# Altium footprint library footprints.PcbLib: 160 footprints (part 7 of 10)
Each footprint in its own frame and in the unit in brackets; x right, y up, seen from the top. Pads: shape width x height; smd on the part's side, far side on the other; paste and mask are expansions set on the pad; w line width, h text height; cw(c..) or ccw(c..) is an arc to the next point about the centre after c.
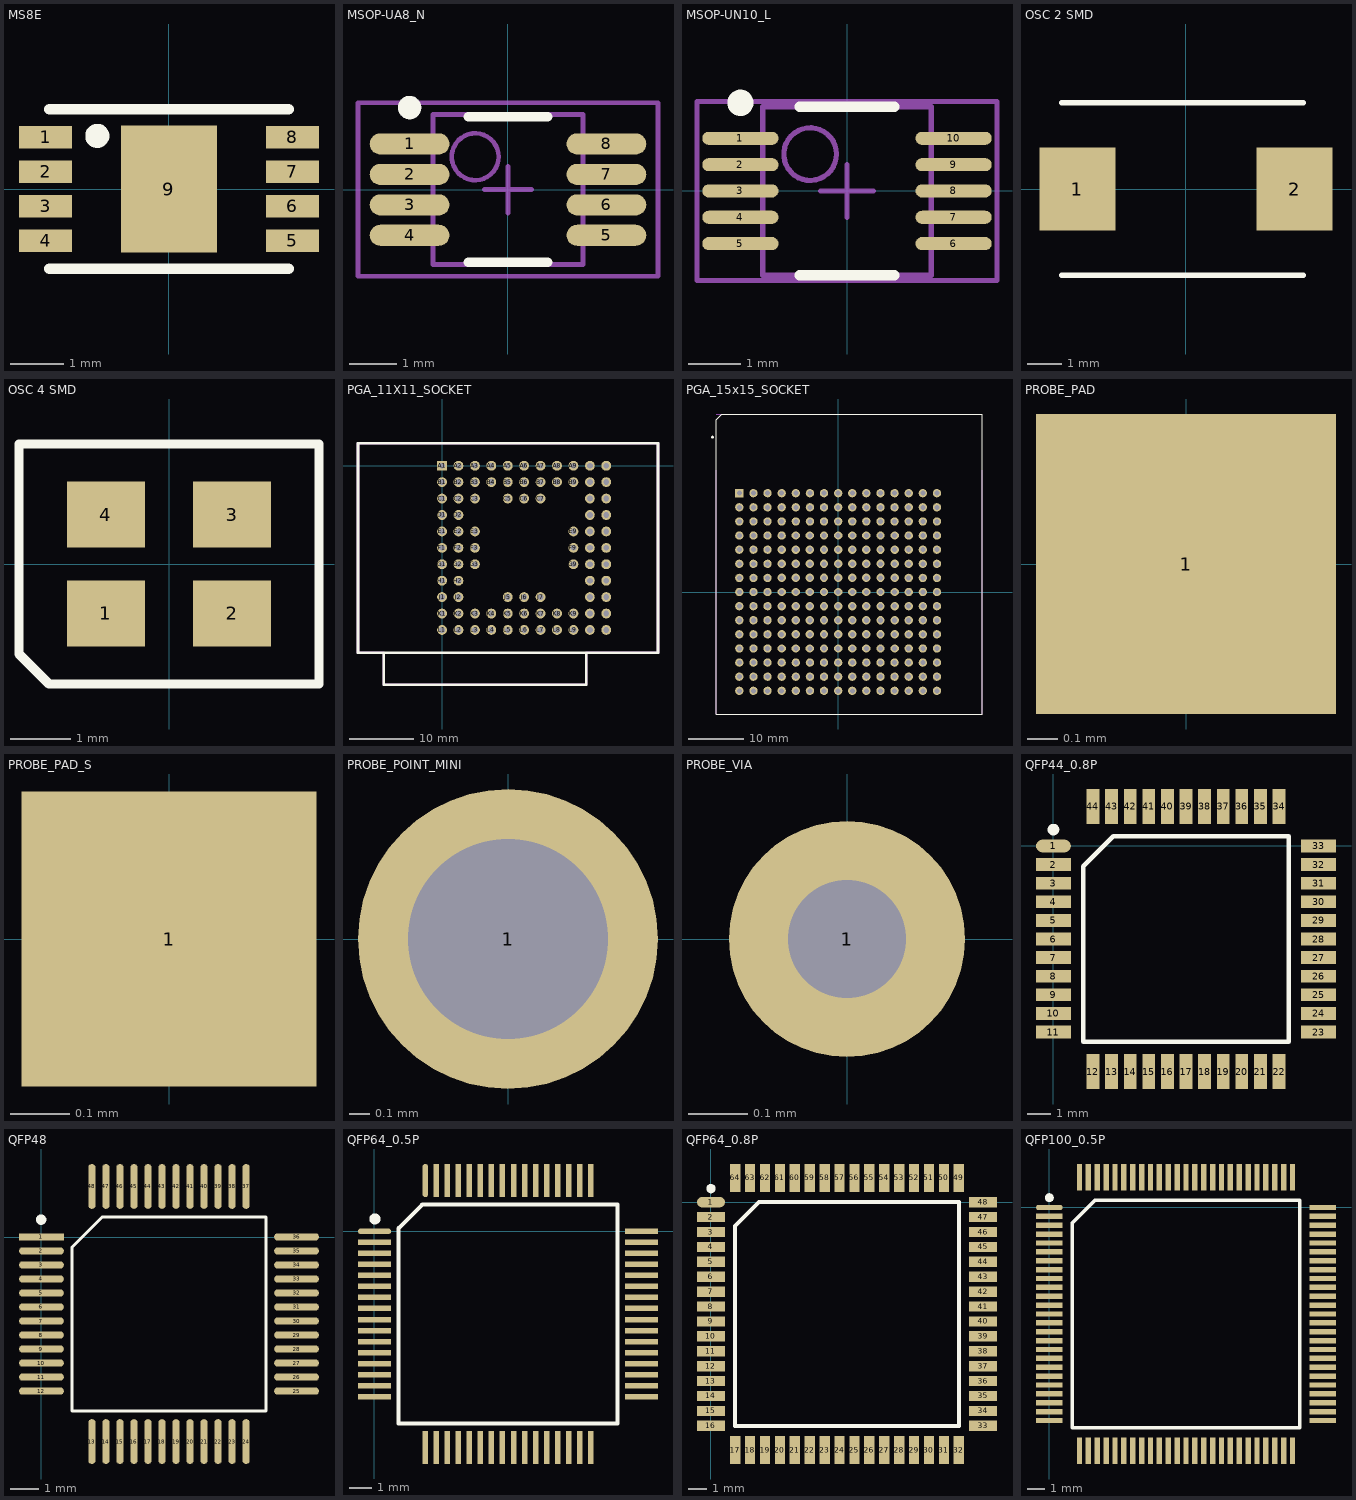
[diagram p6: the footprints below, top view; thin cyan lines are the x and y axes]

## MS8E [mm]
pads (9):
  rect 1x0.42 smd: 1(-2.325,0.975) 2(-2.325,0.325) 3(-2.325,-0.325) 4(-2.325,-0.975) 5(2.325,-0.975) 6(2.325,-0.325) 7(2.325,0.325) 8(2.325,0.975)
  rect 1.8x2.4 smd: 9(0,0)
Top Overlay:
  circle w0.254: c-1.35,1 r0.1
  lines w0.2: -2.25,-1.5 2.25,-1.5 ; -2.25,1.5 2.25,1.5

## MSOP-UA8_N [mm]
pads (8):
  oval 1.7x0.45 smd: 1(-2.1,0.975) 2(-2.1,0.325) 3(-2.1,-0.325) 4(-2.1,-0.975) 5(2.1,-0.975) 6(2.1,-0.325) 7(2.1,0.325) 8(2.1,0.975)
Top Overlay:
  circle w0.25: c-2.1,1.75 r0.125
  lines w0.2: -0.85,-1.55 0.85,-1.55 ; -0.85,1.55 0.85,1.55
Mechanical 13:
  circle w0.1: c-0.7,0.7 r0.5
  lines w0.1: -1.6,-1.6 -1.6,1.6 1.6,1.6 1.6,-1.6 -1.6,-1.6
Mechanical 15:
  lines w0.1: -0.5,0 0.5,0 ; 0,-0.5 0,0.5 ; -3.2,-1.85 -3.2,1.85 3.2,1.85 3.2,-1.85 -3.2,-1.85
3D body: height 1.1, standoff 0, extent -1.6,-1.6 1.6,1.6

## MSOP-UN10_L [mm]
pads (10):
  oval 1.45x0.25 smd: 1(-2.025,1) 2(-2.025,0.5) 3(-2.025,0) 4(-2.025,-0.5) 5(-2.025,-1) 6(2.025,-1) 7(2.025,-0.5) 8(2.025,0) 9(2.025,0.5) 10(2.025,1)
Top Overlay:
  circle w0.25: c-2.025,1.675 r0.125
  lines w0.2: -0.9,-1.6 0.9,-1.6 ; -0.9,1.6 0.9,1.6
Mechanical 13:
  circle w0.1: c-0.7,0.7 r0.5
  lines w0.1: -1.6,-1.6 1.6,-1.6 1.6,1.6 -1.6,1.6 -1.6,-1.6
Mechanical 15:
  lines w0.1: -0.5,0 0.5,0 ; 0,-0.5 0,0.5 ; -2.85,-1.7 2.85,-1.7 2.85,1.7 -2.85,1.7 -2.85,-1.7
3D body: height 1.1, standoff 0, extent -1.6,-1.6 1.6,1.6

## OSC 2 SMD [mm]
pads (2):
  rect 2.2x2.4 smd: 1(-3.15,0) 2(3.15,0)
Top Overlay:
  lines w0.152: -3.6,-2.5 3.4,-2.5 ; -3.6,2.5 3.4,2.5

## OSC 4 SMD [mm] "3.2 x 2.5 x 1.0 mm"
pads (4):
  rect 1.3x1.1 smd: 1(-1.05,-0.825) 2(1.05,-0.825) 3(1.05,0.825) 4(-1.05,0.825)
Top Overlay:
  lines w0.152: -2,-2 -2.5,-1.5 -2.5,0 -2.5,2 2.5,2 2.5,-2 -2,-2 ; -2,-2 -2,-2

## PGA_11X11_SOCKET [mil]
pads (85):
  rect 60x60 hole 35.43: A1(0,0)
  round 60 hole 35.43: A2(100,0) A3(200,0) A4(300,0) A5(400,0) A6(500,0) A7(600,0) A8(700,0) A9(800,0) A10(900,0) A11(1000,0) B1(0,-100) B2(100,-100) B3(200,-100) B4(300,-100) B5(400,-100) B6(500,-100) B7(600,-100) B8(700,-100) B9(800,-100) B10(900,-100) B11(1000,-100) C1(0,-200) C2(100,-200) C3(200,-200) C5(400,-200) C6(500,-200) C7(600,-200) C10(900,-200) C11(1000,-200) D1(0,-300) D2(100,-300) D10(900,-300) D11(1000,-300) E1(0,-400) E2(100,-400) E3(200,-400) E9(800,-400) E10(900,-400) E11(1000,-400) F1(0,-500) F2(100,-500) F3(200,-500) F9(800,-500) F10(900,-500) F11(1000,-500) G1(0,-600) G2(100,-600) G3(200,-600) G9(800,-600) G10(900,-600) G11(1000,-600) H1(0,-700) H2(100,-700) H10(900,-700) H11(1000,-700) J1(0,-800) J2(100,-800) J5(400,-800) J6(500,-800) J7(600,-800) J10(900,-800) J11(1000,-800) K1(0,-900) K2(100,-900) K3(200,-900) K4(300,-900) K5(400,-900) K6(500,-900) K7(600,-900) K8(700,-900) K9(800,-900) K10(900,-900) K11(1000,-900) L1(0,-1000) L2(100,-1000) L3(200,-1000) L4(300,-1000) L5(400,-1000) L6(500,-1000) L7(600,-1000) L8(700,-1000) L9(800,-1000) L10(900,-1000) L11(1000,-1000)
Top Overlay:
  lines w15.75: -354.33,-1137.8 -354.33,-1334.65 877.95,-1334.65 877.95,-1141.73 ; -511.81,-1137.8 1314.96,-1137.8 1314.96,137.8 -511.81,137.8 -511.81,-1137.8
Mechanical 15:
  lines w15.75: 877.95,-1141.73 877.95,-1334.65 -354.33,-1334.65 -354.33,-1137.8 -511.81,-1137.8 -511.81,137.8 1314.96,137.8 1314.96,-1137.8 877.95,-1137.8

## PGA_15x15_SOCKET [mm] "Aries zero insertion force PGA test & burn-in sockets"
pads (145):
  rect 1.5x1.5 hole 0.9: A1(-17.78,17.78)
  round 1.5 hole 0.9: A2(-15.24,17.78) A3(-12.7,17.78) A4(-10.16,17.78) A5(-7.62,17.78) A6(-5.08,17.78) A7(-2.54,17.78) A8(0,17.78) A9(2.54,17.78) A10(5.08,17.78) A11(7.62,17.78) A12(10.16,17.78) A13(12.7,17.78) A14(15.24,17.78) A15(17.78,17.78) B1(-17.78,15.24) B2(-15.24,15.24) B3(-12.7,15.24) B4(-10.16,15.24) B5(-7.62,15.24) B6(-5.08,15.24) B7(-2.54,15.24) B8(0,15.24) B9(2.54,15.24) B10(5.08,15.24) B11(7.62,15.24) B12(10.16,15.24) B13(12.7,15.24) B14(15.24,15.24) B15(17.78,15.24) C1(-17.78,12.7) C2(-15.24,12.7) C3(-12.7,12.7) C4(-10.16,12.7) C5(-7.62,12.7) C6(-5.08,12.7) C7(-2.54,12.7) C8(0,12.7) C9(2.54,12.7) C10(5.08,12.7) C11(7.62,12.7) C12(10.16,12.7) C13(12.7,12.7) C14(15.24,12.7) C15(17.78,12.7) D1(-17.78,10.16) D2(-15.24,10.16) D3(-12.7,10.16) D4(-10.16,10.16) D13(12.7,10.16) D14(15.24,10.16) D15(17.78,10.16) E1(-17.78,7.62) E2(-15.24,7.62) E3(-12.7,7.62) E13(12.7,7.62) E14(15.24,7.62) E15(17.78,7.62) F1(-17.78,5.08) F2(-15.24,5.08) F3(-12.7,5.08) F13(12.7,5.08) F14(15.24,5.08) F15(17.78,5.08) G1(-17.78,2.54) G2(-15.24,2.54) G3(-12.7,2.54) G13(12.7,2.54) G14(15.24,2.54) G15(17.78,2.54) H1(-17.78,0) H2(-15.24,0) H3(-12.7,0) H13(12.7,0) H14(15.24,0) H15(17.78,0) J1(-17.78,-2.54) J2(-15.24,-2.54) J3(-12.7,-2.54) J13(12.7,-2.54) J14(15.24,-2.54) J15(17.78,-2.54) K1(-17.78,-5.08) K2(-15.24,-5.08) K3(-12.7,-5.08) K13(12.7,-5.08) K14(15.24,-5.08) K15(17.78,-5.08) L1(-17.78,-7.62) L2(-15.24,-7.62) L3(-12.7,-7.62) L13(12.7,-7.62) L14(15.24,-7.62) L15(17.78,-7.62) M1(-17.78,-10.16) M2(-15.24,-10.16) M3(-12.7,-10.16) M13(12.7,-10.16) M14(15.24,-10.16) M15(17.78,-10.16) N1(-17.78,-12.7) N2(-15.24,-12.7) N3(-12.7,-12.7) N4(-10.16,-12.7) N5(-7.62,-12.7) N6(-5.08,-12.7) N7(-2.54,-12.7) N8(0,-12.7) N9(2.54,-12.7) N10(5.08,-12.7) N11(7.62,-12.7) N12(10.16,-12.7) N13(12.7,-12.7) N14(15.24,-12.7) N15(17.78,-12.7) P1(-17.78,-15.24) P2(-15.24,-15.24) P3(-12.7,-15.24) P4(-10.16,-15.24) P5(-7.62,-15.24) P6(-5.08,-15.24) P7(-2.54,-15.24) P8(0,-15.24) P9(2.54,-15.24) P10(5.08,-15.24) P11(7.62,-15.24) P12(10.16,-15.24) P13(12.7,-15.24) P14(15.24,-15.24) P15(17.78,-15.24) R1(-17.78,-17.78) R2(-15.24,-17.78) R3(-12.7,-17.78) R4(-10.16,-17.78) R5(-7.62,-17.78) R6(-5.08,-17.78) R7(-2.54,-17.78) R8(0,-17.78) R9(2.54,-17.78) R10(5.08,-17.78) R11(7.62,-17.78) R12(10.16,-17.78) R13(12.7,-17.78) R14(15.24,-17.78) R15(17.78,-17.78)
via -7.62,10.16 diameter 1.5 hole 0.9
via -5.08,10.16 diameter 1.5 hole 0.9
via -2.54,10.16 diameter 1.5 hole 0.9
via 0,10.16 diameter 1.5 hole 0.9
via 2.54,10.16 diameter 1.5 hole 0.9
via 5.08,10.16 diameter 1.5 hole 0.9
via 7.62,10.16 diameter 1.5 hole 0.9
via 10.16,10.16 diameter 1.5 hole 0.9
via 10.16,7.62 diameter 1.5 hole 0.9
via 7.62,7.62 diameter 1.5 hole 0.9
via 5.08,7.62 diameter 1.5 hole 0.9
via 2.54,7.62 diameter 1.5 hole 0.9
via 0,7.62 diameter 1.5 hole 0.9
via -2.54,7.62 diameter 1.5 hole 0.9
via -5.08,7.62 diameter 1.5 hole 0.9
via -7.62,7.62 diameter 1.5 hole 0.9
via 10.16,5.08 diameter 1.5 hole 0.9
via 7.62,5.08 diameter 1.5 hole 0.9
via 5.08,5.08 diameter 1.5 hole 0.9
via 2.54,5.08 diameter 1.5 hole 0.9
via 0,5.08 diameter 1.5 hole 0.9
via -2.54,5.08 diameter 1.5 hole 0.9
via -5.08,5.08 diameter 1.5 hole 0.9
via -7.62,5.08 diameter 1.5 hole 0.9
via 10.16,2.54 diameter 1.5 hole 0.9
via 7.62,2.54 diameter 1.5 hole 0.9
via 5.08,2.54 diameter 1.5 hole 0.9
via 2.54,2.54 diameter 1.5 hole 0.9
via 0,2.54 diameter 1.5 hole 0.9
via -2.54,2.54 diameter 1.5 hole 0.9
via -5.08,2.54 diameter 1.5 hole 0.9
via -7.62,2.54 diameter 1.5 hole 0.9
via 10.16,0 diameter 1.5 hole 0.9
via 7.62,0 diameter 1.5 hole 0.9
via 5.08,0 diameter 1.5 hole 0.9
via 2.54,0 diameter 1.5 hole 0.9
via 0,0 diameter 1.5 hole 0.9
via -2.54,0 diameter 1.5 hole 0.9
via -5.08,0 diameter 1.5 hole 0.9
via -7.62,0 diameter 1.5 hole 0.9
via 10.16,-2.54 diameter 1.5 hole 0.9
via 7.62,-2.54 diameter 1.5 hole 0.9
via 5.08,-2.54 diameter 1.5 hole 0.9
via 2.54,-2.54 diameter 1.5 hole 0.9
via 0,-2.54 diameter 1.5 hole 0.9
via -2.54,-2.54 diameter 1.5 hole 0.9
via -5.08,-2.54 diameter 1.5 hole 0.9
via -7.62,-2.54 diameter 1.5 hole 0.9
via 10.16,-5.08 diameter 1.5 hole 0.9
via 7.62,-5.08 diameter 1.5 hole 0.9
via 5.08,-5.08 diameter 1.5 hole 0.9
via 2.54,-5.08 diameter 1.5 hole 0.9
via 0,-5.08 diameter 1.5 hole 0.9
via -2.54,-5.08 diameter 1.5 hole 0.9
via -5.08,-5.08 diameter 1.5 hole 0.9
via -7.62,-5.08 diameter 1.5 hole 0.9
via 10.16,-7.62 diameter 1.5 hole 0.9
via 7.62,-7.62 diameter 1.5 hole 0.9
via 5.08,-7.62 diameter 1.5 hole 0.9
via 2.54,-7.62 diameter 1.5 hole 0.9
via 0,-7.62 diameter 1.5 hole 0.9
via -2.54,-7.62 diameter 1.5 hole 0.9
via -5.08,-7.62 diameter 1.5 hole 0.9
via -7.62,-7.62 diameter 1.5 hole 0.9
via 10.16,-10.16 diameter 1.5 hole 0.9
via 7.62,-10.16 diameter 1.5 hole 0.9
via 5.08,-10.16 diameter 1.5 hole 0.9
via 2.54,-10.16 diameter 1.5 hole 0.9
via 0,-10.16 diameter 1.5 hole 0.9
via -2.54,-10.16 diameter 1.5 hole 0.9
via -5.08,-10.16 diameter 1.5 hole 0.9
via -7.62,-10.16 diameter 1.5 hole 0.9
via -10.16,7.62 diameter 1.5 hole 0.9
via -10.16,5.08 diameter 1.5 hole 0.9
via -10.16,2.54 diameter 1.5 hole 0.9
via -10.16,0 diameter 1.5 hole 0.9
via -10.16,-2.54 diameter 1.5 hole 0.9
via -10.16,-5.08 diameter 1.5 hole 0.9
via -10.16,-7.62 diameter 1.5 hole 0.9
via -10.16,-10.16 diameter 1.5 hole 0.9
Top Overlay:
  circle w0.25: c-22.6,27.864 r0.125
  lines w0.2: -21.95,-21.95 -21.95,31.034 -20.95,32.034 25.912,32.034 25.912,-21.95 -21.95,-21.95
Mechanical 13:
  lines w0.1: -21.95,21.95 -21.95,-21.95 21.95,-21.95 ; -21.95,32.034 21.95,32.034 ; 25.912,-21.95 25.912,21.95
3D body: height 4.17, standoff 0, extent -21.95,-21.95 25.912,32.034

## PROBE_PAD [mm]
pads (1):
  rect 1x1 smd: 1(0,0)

## PROBE_PAD_S [mm]
pads (1):
  rect 0.5x0.5 smd: 1(0,0)

## PROBE_POINT_MINI [mm]
pads (1):
  round 1.5 hole 1: 1(0,0)

## PROBE_VIA [mm]
pads (1):
  round 0.4 hole 0.2: 1(0,0)

## QFP44_0.8P [mm]
pads (44):
  oval 1.5x0.55 smd: 1(0,0)
  rect 1.5x0.55 smd: 2(0,-0.8) 3(0,-1.6) 4(0,-2.4) 5(0,-3.2) 6(0,-4) 7(0,-4.8) 8(0,-5.6) 9(0,-6.4) 10(0,-7.2) 11(0,-8) 23(11.4,-8) 24(11.4,-7.2) 25(11.4,-6.4) 26(11.4,-5.6) 27(11.4,-4.8) 28(11.4,-4) 29(11.4,-3.2) 30(11.4,-2.4) 31(11.4,-1.6) 32(11.4,-0.8) 33(11.4,0)
  rect 0.55x1.5 smd: 12(1.7,-9.7) 13(2.5,-9.7) 14(3.3,-9.7) 15(4.1,-9.7) 16(4.9,-9.7) 17(5.7,-9.7) 18(6.5,-9.7) 19(7.3,-9.7) 20(8.1,-9.7) 21(8.9,-9.7) 22(9.7,-9.7) 34(9.7,1.7) 35(8.9,1.7) 36(8.1,1.7) 37(7.3,1.7) 38(6.5,1.7) 39(5.7,1.7) 40(4.9,1.7) 41(4.1,1.7) 42(3.3,1.7) 43(2.5,1.7) 44(1.7,1.7)
Top Overlay:
  circle w0.25: c0,0.705 r0.125
  lines w0.2: 1.285,-8.415 1.285,-0.87 2.57,0.415 10.115,0.415 10.115,-8.415 1.285,-8.415

## QFP48 [mm]
pads (48):
  rect 1.6x0.26 smd: 1(0.013,0.01)
  oval 1.6x0.26 smd: 2(0.013,-0.49) 3(0.013,-0.99) 4(0.013,-1.49) 5(0.013,-1.99) 6(0.013,-2.49) 7(0.013,-2.99) 8(0.013,-3.49) 9(0.013,-3.99) 10(0.013,-4.49) 11(0.013,-4.99) 12(0.013,-5.49) 25(9.113,-5.49) 26(9.113,-4.99) 27(9.113,-4.49) 28(9.113,-3.99) 29(9.113,-3.49) 30(9.113,-2.99) 31(9.113,-2.49) 32(9.113,-1.99) 33(9.113,-1.49) 34(9.113,-0.99) 35(9.113,-0.49) 36(9.113,0.01)
  oval 0.26x1.6 smd: 13(1.813,-7.29) 14(2.313,-7.29) 15(2.813,-7.29) 16(3.313,-7.29) 17(3.813,-7.29) 18(4.313,-7.29) 19(4.813,-7.29) 20(5.313,-7.29) 21(5.813,-7.29) 22(6.313,-7.29) 23(6.813,-7.29) 24(7.313,-7.29) 37(7.313,1.81) 38(6.813,1.81) 39(6.313,1.81) 40(5.813,1.81) 41(5.313,1.81) 42(4.813,1.81) 43(4.313,1.81) 44(3.813,1.81) 45(3.313,1.81) 46(2.813,1.81) 47(2.313,1.81) 48(1.813,1.81)
Top Overlay:
  circle w0.3: c0,0.625 r0.035
  lines w0.1: 1.098,-6.205 8.028,-6.205 8.028,0.725 2.183,0.725 1.098,-0.36 1.098,-6.205

## QFP64_0.5P [mm] "64 pin QFP, 0.5mm pin pitch"
pads (64):
  oval 1.5x0.25 smd: 1(0.008,-0.005)
  rect 1.5x0.25 smd: 2(0.008,-0.505) 3(0.008,-1.005) 4(0.008,-1.505) 5(0.008,-2.005) 6(0.008,-2.505) 7(0.008,-3.005) 8(0.008,-3.505) 9(0.008,-4.005) 10(0.008,-4.505) 11(0.008,-5.005) 12(0.008,-5.505) 13(0.008,-6.005) 14(0.008,-6.505) 15(0.008,-7.005) 16(0.008,-7.505) 33(12.108,-7.505) 34(12.108,-7.005) 35(12.108,-6.505) 36(12.108,-6.005) 37(12.108,-5.505) 38(12.108,-5.005) 39(12.108,-4.505) 40(12.108,-4.005) 41(12.108,-3.505) 42(12.108,-3.005) 43(12.108,-2.505) 44(12.108,-2.005) 45(12.108,-1.505) 46(12.108,-1.005) 47(12.108,-0.505) 48(12.108,-0.005)
  rect 0.25x1.5 smd: 17(2.308,-9.805) 18(2.808,-9.805) 19(3.308,-9.805) 20(3.808,-9.805) 21(4.308,-9.805) 22(4.808,-9.805) 23(5.308,-9.805) 24(5.808,-9.805) 25(6.308,-9.805) 26(6.808,-9.805) 27(7.308,-9.805) 28(7.808,-9.805) 29(8.308,-9.805) 30(8.808,-9.805) 31(9.308,-9.805) 32(9.808,-9.805) 49(9.808,2.295) 50(9.308,2.295) 51(8.808,2.295) 52(8.308,2.295) 53(7.808,2.295) 54(7.308,2.295) 55(6.808,2.295) 56(6.308,2.295) 57(5.808,2.295) 58(5.308,2.295) 59(4.808,2.295) 60(4.308,2.295) 61(3.808,2.295) 62(3.308,2.295) 63(2.808,2.295)
  oval 0.25x1.5 smd: 64(2.308,2.295)
Top Overlay:
  circle w0.25: c0.025,0.555 r0.125
  lines w0.2: 1.093,-8.72 1.093,0.125 2.178,1.21 11.023,1.21 11.023,-8.72 1.093,-8.72

## QFP64_0.8P [mm] "64 pin QFP, 0.8mm pin pitch"
pads (64):
  oval 1.5x0.55 smd: 1(0,0)
  rect 1.5x0.55 smd: 2(0,-0.8) 3(0,-1.6) 4(0,-2.4) 5(0,-3.2) 6(0,-4) 7(0,-4.8) 8(0,-5.6) 9(0,-6.4) 10(0,-7.2) 11(0,-8) 12(0,-8.8) 13(0,-9.6) 14(0,-10.4) 15(0,-11.2) 16(0,-12) 33(14.6,-12) 34(14.6,-11.2) 35(14.6,-10.4) 36(14.6,-9.6) 37(14.6,-8.8) 38(14.6,-8) 39(14.6,-7.2) 40(14.6,-6.4) 41(14.6,-5.6) 42(14.6,-4.8) 43(14.6,-4) 44(14.6,-3.2) 45(14.6,-2.4) 46(14.6,-1.6) 47(14.6,-0.8) 48(14.6,0)
  rect 0.55x1.5 smd: 17(1.3,-13.3) 18(2.1,-13.3) 19(2.9,-13.3) 20(3.7,-13.3) 21(4.5,-13.3) 22(5.3,-13.3) 23(6.1,-13.3) 24(6.9,-13.3) 25(7.7,-13.3) 26(8.5,-13.3) 27(9.3,-13.3) 28(10.1,-13.3) 29(10.9,-13.3) 30(11.7,-13.3) 31(12.5,-13.3) 32(13.3,-13.3) 49(13.3,1.3) 50(12.5,1.3) 51(11.7,1.3) 52(10.9,1.3) 53(10.1,1.3) 54(9.3,1.3) 55(8.5,1.3) 56(7.7,1.3) 57(6.9,1.3) 58(6.1,1.3) 59(5.3,1.3) 60(4.5,1.3) 61(3.7,1.3) 62(2.9,1.3) 63(2.1,1.3) 64(1.3,1.3)
Top Overlay:
  circle w0.25: c0,0.73 r0.125
  lines w0.2: 1.285,-12.015 13.315,-12.015 13.315,0.015 2.57,0.015 1.285,-1.27 1.285,-12.015

## QFP100_0.5P [mm] "100 pin QFP, 0.5mm pin pitch"
pads (100):
  oval 1.5x0.3 smd: 1(0,0)
  rect 1.5x0.3 smd: 2(0,-0.5) 3(0,-1) 4(0,-1.5) 5(0,-2) 6(0,-2.5) 7(0,-3) 8(0,-3.5) 9(0,-4) 10(0,-4.5) 11(0,-5) 12(0,-5.5) 13(0,-6) 14(0,-6.5) 15(0,-7) 16(0,-7.5) 17(0,-8) 18(0,-8.5) 19(0,-9) 20(0,-9.5) 21(0,-10) 22(0,-10.5) 23(0,-11) 24(0,-11.5) 25(0,-12) 51(15.4,-12) 52(15.4,-11.5) 53(15.4,-11) 54(15.4,-10.5) 55(15.4,-10) 56(15.4,-9.5) 57(15.4,-9) 58(15.4,-8.5) 59(15.4,-8) 60(15.4,-7.5) 61(15.4,-7) 62(15.4,-6.5) 63(15.4,-6) 64(15.4,-5.5) 65(15.4,-5) 66(15.4,-4.5) 67(15.4,-4) 68(15.4,-3.5) 69(15.4,-3) 70(15.4,-2.5) 71(15.4,-2) 72(15.4,-1.5) 73(15.4,-1) 74(15.4,-0.5) 75(15.4,0)
  rect 0.3x1.5 smd: 26(1.7,-13.7) 27(2.2,-13.7) 28(2.7,-13.7) 29(3.2,-13.7) 30(3.7,-13.7) 31(4.2,-13.7) 32(4.7,-13.7) 33(5.2,-13.7) 34(5.7,-13.7) 35(6.2,-13.7) 36(6.7,-13.7) 37(7.2,-13.7) 38(7.7,-13.7) 39(8.2,-13.7) 40(8.7,-13.7) 41(9.2,-13.7) 42(9.7,-13.7) 43(10.2,-13.7) 44(10.7,-13.7) 45(11.2,-13.7) 46(11.7,-13.7) 47(12.2,-13.7) 48(12.7,-13.7) 49(13.2,-13.7) 50(13.7,-13.7) 76(13.7,1.7) 77(13.2,1.7) 78(12.7,1.7) 79(12.2,1.7) 80(11.7,1.7) 81(11.2,1.7) 82(10.7,1.7) 83(10.2,1.7) 84(9.7,1.7) 85(9.2,1.7) 86(8.7,1.7) 87(8.2,1.7) 88(7.7,1.7) 89(7.2,1.7) 90(6.7,1.7) 91(6.2,1.7) 92(5.7,1.7) 93(5.2,1.7) 94(4.7,1.7) 95(4.2,1.7) 96(3.7,1.7) 97(3.2,1.7) 98(2.7,1.7) 99(2.2,1.7) 100(1.7,1.7)
Top Overlay:
  circle w0.25: c0,0.555 r0.125
  lines w0.2: 1.285,-12.415 1.285,-0.87 2.57,0.415 14.115,0.415 14.115,-12.415 1.285,-12.415